# Altium footprint library GM-402B.PcbLib: 1 footprints
Each footprint in its own frame and in the unit in brackets; x right, y up, seen from the top. Pads: shape width x height; smd on the part's side, far side on the other; paste and mask are expansions set on the pad; w line width, h text height; cw(c..) or ccw(c..) is an arc to the next point about the centre after c.
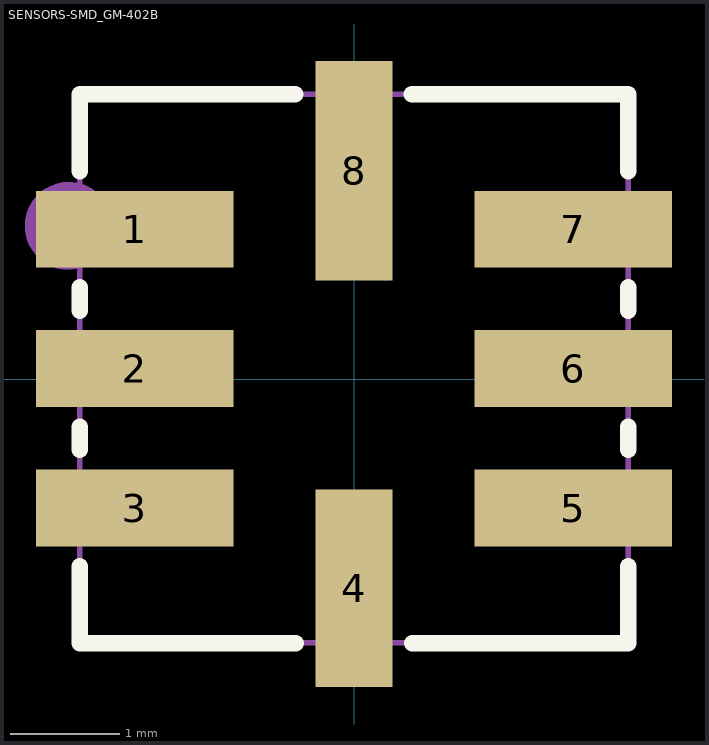
[diagram p0: the footprint, top view; thin cyan lines are the x and y axes]

## SENSORS-SMD_GM-402B [mm] "The GM-402B is a compact MEMS-based combustible gas sensor by Winsen Electronics, designed to detect gases like methane (CH₄) and propane (C₃H₈) within a 1–10,000 ppm range. It operates with a heater voltage of 2.8V ± 0.1V (AC or DC) and supports a circuit voltage up to 24V DC. The sensor features an 8-pin SMD package with the following configuration /  / Pin 1 (RH1) Heater terminal 1 /  / Pin 2 No connection /  / Pin 3 (RH2) Heater terminal 2 /  / Pin 4 No connection /  / Pin 5 (RS1) Sensor output terminal 1 /  / Pin 6 No connection /  / Pin 7 (RS2) Sensor output terminal 2 /  / Pin 8 No connection"
pads (8):
  rect 1.8x0.7 smd: 1(-1.999,1.369) 2(-1.999,0.099) 3(-1.999,-1.171) 5(1.999,-1.171) 6(1.999,0.099) 7(1.999,1.369)
  rect 0.7x1.8 smd: 4(0,-1.9)
  rect 0.7x2 smd: 8(0,1.9)
Top Overlay:
  lines w0.15: -2.5,-1.7 -2.5,-2.401 -0.529,-2.401 ; -2.5,-0.642 -2.5,-0.43 ; -2.5,0.628 -2.5,0.84 ; -2.5,1.898 -2.5,2.52 -2.5,2.599 -0.534,2.599 ; 0.524,2.599 2.5,2.599 2.5,1.898 ; 0.529,-2.401 2.5,-2.401 2.5,-1.7 ; 2.5,-0.642 2.5,-0.43 ; 2.5,0.628 2.5,0.84
Mechanical 6:
  circle w0.4: c-2.6,1.4 r0.2
Mechanical 15:
  region: 0.3,0.9 0.3,2.6 -0.3,2.6 -0.3,1.1
  region: -1.3,1.669 -1.3,1.069 -2.5,1.069 -2.5,1.669
  region: -1.3,0.399 -1.3,-0.201 -2.5,-0.201 -2.5,0.399
  region: -1.3,-0.871 -1.3,-1.471 -2.5,-1.471 -2.5,-0.871
  region: 0.3,-2.4 -0.3,-2.4 -0.3,-1.2 0.3,-1.2
  region: 2.5,-0.871 2.5,-1.471 1.3,-1.471 1.3,-0.871
  region: 2.5,0.399 2.5,-0.201 1.3,-0.201 1.3,0.399
  region: 2.5,1.669 2.5,1.069 1.3,1.069 1.3,1.669
  region: -2.44,2.6 -2.44,2.625 -2.475,2.66 -2.525,2.66 -2.56,2.625 -2.56,2.6 -2.56,2.575 -2.525,2.54 -2.475,2.54 -2.44,2.575
  lines w0.051: -2.5,-2.4 2.5,-2.4 2.5,2.6 -2.5,2.6 -2.5,-2.4
3D body "User Library-gm-702b.STEP": height 1.51, standoff -0.01, extent -2.5,-2.5 2.5,2.5